# Altium schematic symbol library Da Hole.SchLib: 1 symbol
Pins are listed as number, name and electrical type; pins without a type are passive.

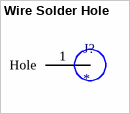
[diagram p0: symbol Wire Solder Hole]

## Wire Solder Hole
designator J?
hole for a jumper wire to be soldered
footprint 20AWG JUMPER (Hole to solder wire for power resistor)
pins: 1 Hole "Da Hole"